# Altium footprint library CAPC3828X335.PcbLib: 3 footprints
Each footprint in its own frame and in the unit in brackets; x right, y up, seen from the top. Pads: shape width x height; smd on the part's side, far side on the other; paste and mask are expansions set on the pad; w line width, h text height; cw(c..) or ccw(c..) is an arc to the next point about the centre after c.
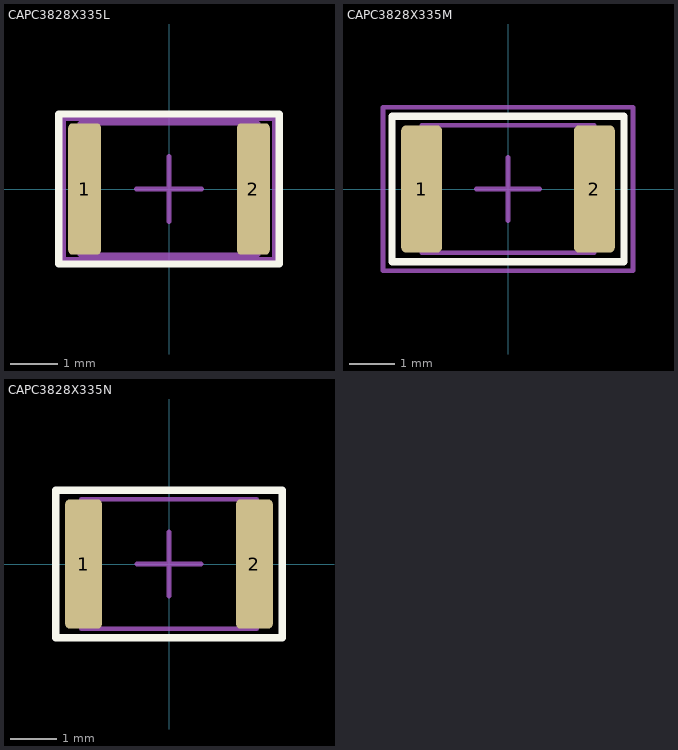
[diagram p0: the footprints below, top view; thin cyan lines are the x and y axes]

## CAPC3828X335L [mm] "Capacitors, Chip, Non-polarized"
height 3.45
pads (2):
  rrect25% 0.7x2.8 smd: 1(-1.8,0) 2(1.8,0)
Top Overlay:
  lines w0.16: -2.35,-1.6 2.35,-1.6 2.35,1.6 -2.35,1.6 -2.35,-1.6
Top Component Center:
  lines w0.1: -0.7,0 0.7,0 ; 0,-0.7 0,0.7
Top Courtyard:
  lines w0.1: -2.25,-1.5 2.25,-1.5 2.25,1.5 -2.25,1.5 -2.25,-1.5
Top Assembly:
  lines w0.1: -1.9,-1.4 1.9,-1.4 1.9,1.4 -1.9,1.4 -1.9,-1.4
  text ".Designator" at 0,0 h1
3D body "CAPC3828X335L.STEP": height 3.35, standoff 0, extent -1.9,-1.4 1.9,1.4

## CAPC3828X335M [mm] "Capacitors, Chip, Non-polarized"
height 3.45
pads (2):
  rrect25% 0.9x2.8 smd: 1(-1.9,0) 2(1.9,0)
Top Overlay:
  lines w0.16: -2.55,-1.6 2.55,-1.6 2.55,1.6 -2.55,1.6 -2.55,-1.6
Top Component Center:
  lines w0.1: -0.7,0 0.7,0 ; 0,-0.7 0,0.7
Top Courtyard:
  lines w0.1: -2.75,-1.8 2.75,-1.8 2.75,1.8 -2.75,1.8 -2.75,-1.8
Top Assembly:
  lines w0.1: -1.9,-1.4 1.9,-1.4 1.9,1.4 -1.9,1.4 -1.9,-1.4
  text ".Designator" at 0,0 h1
3D body "CAPC3828X335M.STEP": height 3.35, standoff 0, extent -1.9,-1.4 1.9,1.4

## CAPC3828X335N [mm] "Capacitors, Chip, Non-polarized"
height 3.45
pads (2):
  rrect25% 0.8x2.8 smd: 1(-1.85,0) 2(1.85,0)
Top Overlay:
  lines w0.16: -2.45,-1.6 2.45,-1.6 2.45,1.6 -2.45,1.6 -2.45,-1.6
Top Component Center:
  lines w0.1: -0.7,0 0.7,0 ; 0,-0.7 0,0.7
Top Courtyard:
  lines w0.1: -2.45,-1.6 2.45,-1.6 2.45,1.6 -2.45,1.6 -2.45,-1.6
Top Assembly:
  lines w0.1: -1.9,-1.4 1.9,-1.4 1.9,1.4 -1.9,1.4 -1.9,-1.4
  text ".Designator" at 0,0 h1
3D body "CAPC3828X335N.STEP": height 3.35, standoff 0, extent -1.9,-1.4 1.9,1.4